# Altium schematic symbol library ESP32_DevKitCWROOM32.SchLib: 1 symbol
Pins are listed as number, name and electrical type; pins without a type are passive.

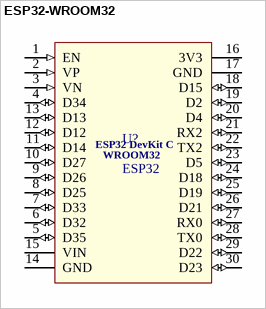
[diagram p0: symbol ESP32-WROOM32]

## ESP32-WROOM32
designator U?, comment ESP32
Multiprotocol Modules SMD Module ESP32-WROOM-32E, ESP32-D0WD-V3, 16 MB SPI flash, PCB antenna; Manufacturer: Espressif Systems; Manufacturer Part Number: ESP32-WROOM-32E-N16; Max Supply Voltage: 3.6V; Min Supply Voltage: 3V; Operating Supply Voltage: 3.3V; Supplier: DigiKey; Supplier Part Number: 5407-ESP32-WROOM-32E-N16CT-ND; RoHS: Compliant; Category: RF Transceiver Modules and Modems; Stock: 9659; Pricing: 1=5.71, 10=4.941, 25=4.6748, 100=4.3087, 250=4.0894 (USD); Height - Seated (Max): 3.25mm; Harmonized Tariff Schedule (HTS) Code: 8542.31.00.30; Length: 25.5mm; Max Operating Temperature: 85°C; Min Operating Temperature: -40°C; Number of Terminals: 38; REACH SVHC: Yes; Terminal Pitch: 1.27mm; Width: 18mm; ComponentLink1URL: https://datasheet.octopart.com:443/ESP32-WROOM-32E-N16-Espressif-Systems-datasheet-182247776.pdf?src-supplier=IHS; ComponentLink1Description: https://datasheet.octopart.com:443/ESP32-WROOM-32E-N16-Espressif-Systems-datasheet-182247776.pdf?src-supplier=IHS; ComponentLink2URL: https://datasheet.octopart.com:443/ESP32-WROOM-32E-N16-Espressif-Systems-datasheet-192340067.pdf?src-supplier=HQonline; ComponentLink2Description: https://datasheet.octopart.com:443/ESP32-WROOM-32E-N16-Espressif-Systems-datasheet-192340067.pdf?src-supplier=HQonline; ComponentLink3URL: https://datasheet.octopart.com:443/ESP32-WROOM-32E-N16-Espressif-Systems-datasheet-188867343.pdf?src-supplier=TME; ComponentLink3Description: https://datasheet.octopart.com:443/ESP32-WROOM-32E-N16-Espressif-Systems-datasheet-188867343.pdf?src-supplier=TME; ComponentLink4URL: https://datasheet.octopart.com:443/ESP32-WROOM-32E-N16-Espressif-Systems-datasheet-165560559.pdf?src-supplier=TME; ComponentLink4Description: https://datasheet.octopart.com:443/ESP32-WROOM-32E-N16-Espressif-Systems-datasheet-165560559.pdf?src-supplier=TME; ComponentLink5URL: https://datasheet.octopart.com:443/ESP32-WROOM-32E-N16-Espressif-Systems-datasheet-151884363.pdf?src-supplier=Future+Electronics; ComponentLink5Description: https://datasheet.octopart.com:443/ESP32-WROOM-32E-N16-Espressif-Systems-datasheet-151884363.pdf?src-supplier=Future+Electronics
footprint ESP32_DevKitCWROOM32 (Multiprotocol Modules SMD Module ESP32-WROOM-32E, ESP32-D0WD-V3, 16 MB SPI flash, PCB antenna)
pins: 1 EN (in), 2 VP (in), 3 VN (in), 4 D34 (io), 5 D35 (io), 6 D32 (io), 7 D33 (io), 8 D25 (io), 9 D26 (io), 10 D27 (io), 11 D14 (io), 12 D12 (io), 13 D13 (io), 14 GND (power), 15 VIN (power), 16 3V3 (power), 17 GND (power), 18 D15 (io), 19 D2 (io), 20 D4 (io), 21 RX2 (io), 22 TX2 (io), 23 D5 (io), 24 D18 (io), 25 D19 (io), 26 D21 (io), 27 RX0 (io), 28 TX0 (io), 29 D22 (io), 30 D23 (io)
text: ESP32 DevKit C; WROOM32